# Altium footprint library PCB_Oscilators.PcbLib: 2 footprints
Each footprint in its own frame and in the unit in brackets; x right, y up, seen from the top. Pads: shape width x height; smd on the part's side, far side on the other; paste and mask are expansions set on the pad; w line width, h text height; cw(c..) or ccw(c..) is an arc to the next point about the centre after c.
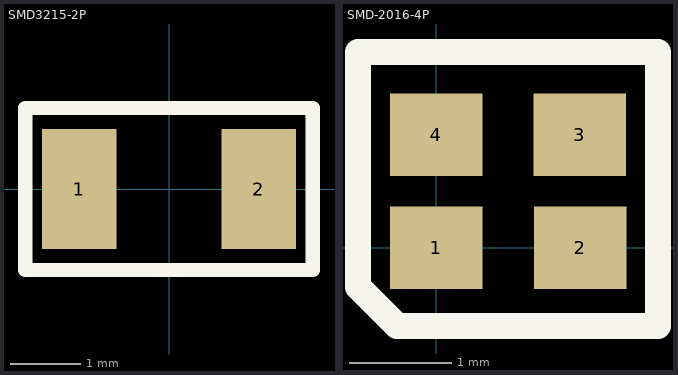
[diagram p0: the footprints below, top view; thin cyan lines are the x and y axes]

## SMD3215-2P [mm]
pads (2):
  rect 1.05x1.7 smd: 1(-1.27,0) 2(1.27,0)
Top Overlay:
  lines w0.2: -2.032,-1.143 -2.032,0.587 -2.032,1.143 2.032,1.143 2.032,-1.143 -2.032,-1.143
3D body "NX3215SA-32.768K-EXS00A-MU00003.STEP": height 0.9, standoff 0, extent -1.6,-0.75 1.6,0.75

## SMD-2016-4P [mm]
pads (4):
  rect 0.9x0.8 smd: 1(0,0) 2(1.4,0) 3(1.397,1.1) 4(0,1.1)
Top Overlay:
  lines w0.254: -0.762,-0.381 -0.762,1.905 2.159,1.905 2.159,-0.762 -0.381,-0.762 -0.762,-0.381
3D body "CX2016DB16000D0WZRC1.STEP": height 0.45, standoff 0, extent -0.325,-0.275 1.675,1.325